# Altium footprint library boost.PcbLib: 3 footprints
Each footprint in its own frame and in the unit in brackets; x right, y up, seen from the top. Pads: shape width x height; smd on the part's side, far side on the other; paste and mask are expansions set on the pad; w line width, h text height; cw(c..) or ccw(c..) is an arc to the next point about the centre after c.
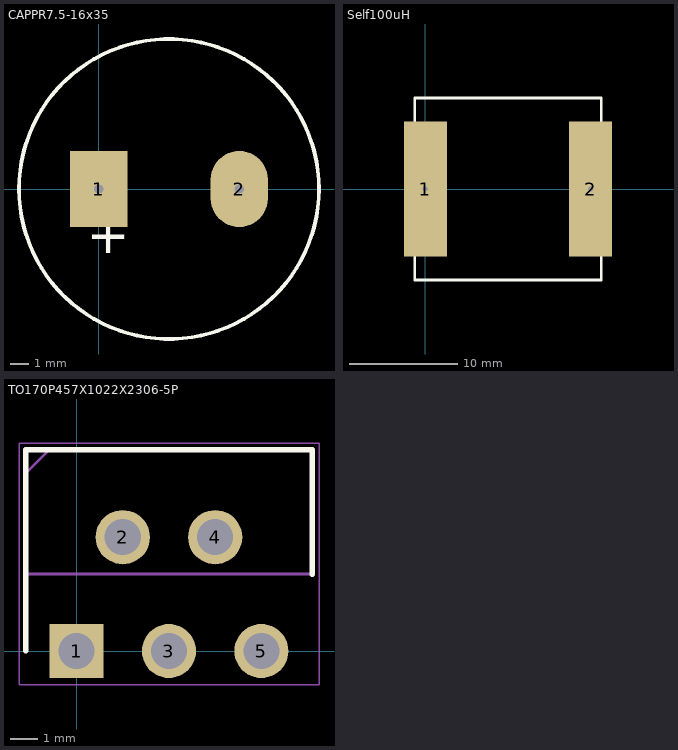
[diagram p0: the footprints below, top view; thin cyan lines are the x and y axes]

## CAPPR7.5-16x35 [mil] "Capacitor, Electrolytic, Radial; Body 16 x 35 mm (Dia.xH typ); Pin Spacing 7.5 mm (typ)"
pads (2):
  rect 120x160 hole 19.68 paste+0 mask+0: 1(0,0)
  oval 120x160 hole 19.68 paste+0 mask+0: 2(295.28,0)
Top Overlay:
  circle w7.87: c147.64,0 r314.96
  text "+" at -25,-135 h78.74

## Self100uH [mm] "Inductance 100uH 5,3A"
pads (2):
  rect 4x12.5 hole 0.5: 1(0,0) 2(15.35,0)
Top Overlay:
  lines w0.254: -0.975,-8.45 -0.975,8.45 16.325,8.45 16.325,-8.45 -0.975,-8.45

## TO170P457X1022X2306-5P [mm]
pads (5):
  rect 1.995x1.995 / inner round 1.995 / far side rect 1.995x1.995 hole 1.33: 1(0,0)
  round 1.995 hole 1.33: 2(1.7,4.191) 3(3.4,0) 4(5.1,4.191) 5(6.8,0)
Top Overlay:
  lines w0.2: -1.87,0 -1.87,7.404 8.67,7.404 8.67,2.832
Mechanical 15:
  lines w0.1: -1.87,6.554 -1.02,7.404 ; -1.87,2.832 -1.87,7.404 8.671,7.404 8.671,2.832 -1.87,2.832
Mechanical 20:
  lines w0.05: -2.12,-1.248 -2.12,7.654 8.921,7.654 8.921,-1.248 -2.12,-1.248